# Altium integrated library npm1300_qeaa_config2.IntLib: 11 symbols
Pins are listed as number, name and electrical type; pins without a type are passive.

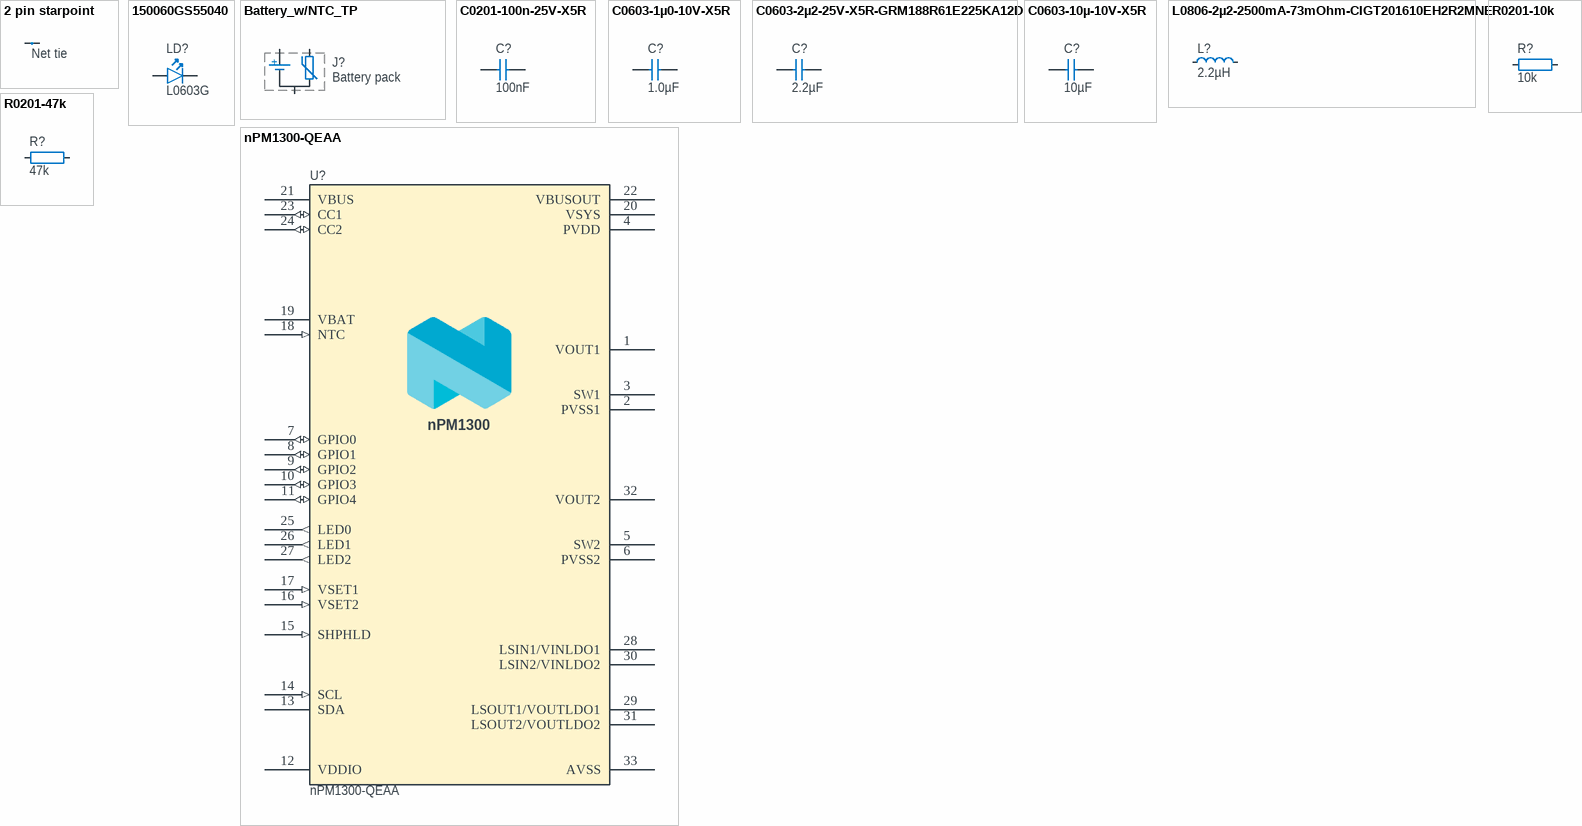
[diagram p0: symbols 2 pin starpoint to R0201-47k]

## 2 pin starpoint
designator NT?, comment Net tie  (net tie, no BOM)
Starpoint; Part Number: 2 pin starpoint; Manufacturer: N.A.; Part number NEMS: 100500603; Pad Count: 2; Component Status: Active; Manufacturer Part Number: N.A.; ComponentLink1URL: N.A.; ComponentLink1Description: Datasheet; ComponentLink2URL: N.A.; ComponentLink2Description: Supplier link; HelpURL: N.A.; Footprint Doc: N.A.; LatestRevisionDate: 2017-08-31; Published: 2017-08-31; Value: Net tie; Note: Net tie; Supplier 1: N.A.; Supplier Part Number 1: N.A.; Supplier 2: N.A.; Supplier Part Number 2: N.A.; Artikkelnr Noca: N.A.; Part number IPS: N.A.; Component Class: Connectors; PartId: 100500603; Author: rsk; Part number Norautron: N.A.
footprint 2 PIN STARPOINT
pins: 1, 2

## 150060GS55040
designator LD?, comment L0603G  (graphical)
LED 0603 GREEN; Part Number: 150060GS55040; Manufacturer: Wurth Elektronik; Part number NEMS: 101400140; Component Status: Active; Pad Count: 2; Note: 60 mcd @ 20 mA; Artikkelnr Noca: N.A.; PartId: 101400140; Component Class: Optoelectronics; Author: kjp; Manufacturer Part Number: 150060GS55040; ComponentLink1URL: https://no.mouser.com/datasheet/2/445/150060GS55040-1714515.pdf; ComponentLink1Description: Datasheet; ComponentLink2URL: https://no.mouser.com/ProductDetail/Wurth-Elektronik/150060GS55040?qs=fAHHVMwC%252Bbhr5Aln2oA6Nw%3D%3D; ComponentLink2Description: Supplier link; HelpURL: N.A.; LatestRevisionDate: 2022-01-27; Published: 2022-01-27; Footprint Doc: 0603; Value: L0603G; Supplier 1: Mouser; Supplier Part Number 1: 710-150060GS55040; Supplier 2: Digi-Key; Supplier Part Number 2: 732-12014-2-ND; Part number IPS: N.A.; Part number Norautron: N.A.
footprint LED_0603_G
pins: 1 C, 2 A

## Battery_w/NTC_TP
designator J?, comment Battery pack  (graphical)
Battery pack with NTC; Part Number: Battery_w/NTC_TP; Manufacturer: N.A.; Part number NEMS: 101800005; Pad Count: 3; Component Status: Active; Footprint Doc: TP_3x1mm_TH; Value: Battery pack; Component Class: Batteries; Author: rsk; PartId: 101800005; Manufacturer Part Number: N.A.; ComponentLink1URL: N.A.; ComponentLink1Description: Datasheet; ComponentLink2URL: N.A.; ComponentLink2Description: Supplier link; HelpURL: N.A.; LatestRevisionDate: 2020-09-21; Published: 2020-09-21; Note: N.A.; Supplier 1: N.A.; Supplier Part Number 1: N.A.; Supplier 2: N.A.; Supplier Part Number 2: N.A.; Artikkelnr Noca: N.A.; Part number IPS: N.A.; Part number Norautron: N.A.
footprint TP_3x1mm_TH
pins: 1 GND, 2 NTC, 3 V+
text: +

## C0201-100n-25V-X5R
designator C?, comment 100nF
Capacitor, Ceramic, X5R, ±10%, 25V; Part Number: C0201-100n-25V-X5R; Manufacturer: Murata; Manufacturer Part Number: GRM033R61E104KE14J; Part number NEMS: 100200459; Pad Count: 2; Artikkelnr Noca: N.A.; Component Status: Active; PartId: 100200459; Component Class: Capacitors; Author: rsk; ComponentLink1URL: https://search.murata.co.jp/Ceramy/image/img/A01X/G101/ENG/GRM033R61E104KE14-01.pdf; ComponentLink1Description: Datasheet; ComponentLink2URL: https://www.murata.com/en-global/products/productdetail?partno=GRM033R61E104KE14%23; ComponentLink2Description: Supplier link; HelpURL: N.A.; Footprint Doc: 0201; LatestRevisionDate: 2020-12-16; Published: 2020-12-16; Value: 100nF; Note: 25V; Supplier 1: Digi-Key; Supplier Part Number 1: 490-14571-1-ND; Supplier 2: Mouser; Supplier Part Number 2: 81-GRM033R61E104KE4J; Part number IPS: N.A.; Part number Norautron: N.A.
footprint CAPC0603X03L_C
pins: 1, 2

## C0603-1µ0-10V-X5R
designator C?, comment 1.0µF
Capacitor, Ceramic, 1.0µF 10V X5R 0603,±10%; Part Number: C0603-1µ0-10V-X5R; Manufacturer: N.A.; Part number NEMS: 100200528; Pad Count: 2; Component Status: Active; Manufacturer Part Number: N.A.; Footprint Doc: 0603; LatestRevisionDate: 2022-10-06; Published: 2022-10-06; Value: 1.0µF; Note: 10V; Artikkelnr Noca: N.A.; Part number IPS: N.A.; ComponentLink1URL: N.A.; ComponentLink1Description: Datasheet; ComponentLink2URL: N.A.; ComponentLink2Description: Supplier link; HelpURL: N.A.; Supplier 1: N.A.; Supplier Part Number 1: N.A.; Supplier 2: N.A.; Supplier Part Number 2: N.A.; Component Class: Capacitors; PartId: 100200528; Author: getr; Part number Norautron: N.A.
footprint CAPC1608X06L
pins: 1, 2

## C0603-2µ2-25V-X5R-GRM188R61E225KA12D
designator C?, comment 2.2µF
Capacitor, Ceramic, X5R, ±10%, 25V; Part Number: C0603-2µ2-25V-X5R-GRM188R61E225KA12D; Manufacturer: Murata; Manufacturer Part Number: GRM188R61E225KA12D; Part number NEMS: 100200454; Component Status: Active; Pad Count: 2; Artikkelnr Noca: N.A.; PartId: 100200454; Component Class: Capacitors; Author: rsk; ComponentLink1URL: https://search.murata.co.jp/Ceramy/image/img/A01X/G101/ENG/GRM188R61E225KA12-01.pdf; ComponentLink1Description: Datasheet; ComponentLink2URL: https://www.murata.com/en-global/products/productdetail?partno=GRM188R61E225KA12%23; ComponentLink2Description: Supplier link; HelpURL: N.A.; LatestRevisionDate: 2021-07-22; Published: 2020-12-16; Footprint Doc: 0603; Value: 2.2µF; Note: 25V; Supplier 1: Digi-Key; Supplier Part Number 1: 490-10731-1-ND; Supplier 2: Mouser; Supplier Part Number 2: 81-GRM188R61E225KA2D; Part number IPS: N.A.; Part number Norautron: N.A.
footprint CAPC1608X06L
pins: 1, 2

## C0603-10µ-10V-X5R
designator C?, comment 10µF
Capacitor, Ceramic, X5R, ±20%, 10V; Part Number: C0603-10µ-10V-X5R; Manufacturer: N.A.; Part number Norautron: 262085341; Part number NEMS: 100200481; Pad Count: 2; Component Status: Active; Manufacturer Part Number: N.A.; ComponentLink1URL: N.A.; ComponentLink1Description: Datasheet; ComponentLink2URL: N.A.; ComponentLink2Description: Supplier link; HelpURL: N.A.; Footprint Doc: 0603; LatestRevisionDate: 2021-07-22; Published: 2021-07-22; Value: 10µF; Note: 10V; Supplier 1: N.A.; Supplier Part Number 1: N.A.; Supplier 2: N.A.; Supplier Part Number 2: N.A.; Artikkelnr Noca: N.A.; Part number IPS: N.A.; Component Class: Capacitors; PartId: 100200481; Author: rubr
footprint CAPC1608X06L
pins: 1, 2

## L0806-2µ2-2500mA-73mOhm-CIGT201610EH2R2MNE
designator L?, comment 2.2µH
Inductor, Irms=2.5A, Isat=2.9A, ±20%, DCR=73mΩ; Part Number: L0806-2µ2-2500mA-73mOhm-CIGT201610EH2R2MNE; Manufacturer: Samsung Electro-Mechanics America; Manufacturer Part Number: CIGT201610EH2R2MNE; Part number Norautron: 26521789; Part number NEMS: 100300400; Pad Count: 2; Note: Unshielded Thin Film Inductor; Artikkelnr Noca: N.A.; Component Status: Active; PartId: 100300400; Component Class: Inductors; Author: rsk; ComponentLink1URL: https://media.digikey.com/pdf/Data%20Sheets/Samsung%20PDFs/CIGT201610EH2R2MNE_Spec.pdf; ComponentLink1Description: Datasheet; ComponentLink2URL: https://www.digikey.com/en/products/detail/samsung-electro-mechanics/CIGT201610EH2R2MNE/7041223?s=N4IgTCBcDaIMIEkDiAVMAGAjANk%2BgogBJgBKYAsgHL4gC6AvkA; ComponentLink2Description: Supplier link; HelpURL: http://product.samsungsem.com/pi/CIGT201610EH2R2MN.do; Footprint Doc: 0806; LatestRevisionDate: 2022-09-07; Published: 2021-02-03; Value: 2.2µH; Supplier 1: Digi-Key; Supplier Part Number 1: 1276-6901-1-ND; Supplier 2: Mouser; Supplier Part Number 2: 187-CIGT201610EH2R2M; Part number IPS: N.A.
footprint INDC2016X10N
pins: 1, 2

## nPM1300-QEAA
designator U?
Li-Ion/Li-Polymer USB-C battery charger with high efficiency buck regulators, LDOs or load switches, LED drivers, TWI and VBUSOUT; Manufacturer: Nordic Semiconductor; Part number NEMS: 102000252; Component Status: Active; Pad Count: 33; Note: N.A.; Part Number: nPM1300-QEAA; PartId: 102000252; Component Class: nRF_Devices; Author: eisk; Manufacturer Part Number: nPM1300-QEAA; ComponentLink1URL: N.A.; ComponentLink1Description: Datasheet; ComponentLink2URL: N.A.; ComponentLink2Description: Supplier link; HelpURL: N.A.; LatestRevisionDate: 2022-11-14; Published: 2022-02-17; Footprint Doc: QFN-32; Value: nPM1300-QEAA; Supplier 1: Nordic Semiconductor; Supplier Part Number 1: nPM1300-QEAA; Supplier 2: N.A.; Supplier Part Number 2: N.A.; Artikkelnr Noca: N.A.; Part number IPS: N.A.; Part number Norautron: N.A.
footprint Nordic_QFN50P500X500X90-33N
pins: 1 VOUT1 (power), 2 PVSS1 (power), 3 SW1 (power), 4 PVDD (power), 5 SW2 (power), 6 PVSS2 (power), 7 GPIO0 (io), 8 GPIO1 (io), 9 GPIO2 (io), 10 GPIO3 (io), 11 GPIO4 (io), 12 VDDIO (power), 13 SDA (oc), 14 SCL (in), 15 SHPHLD (in), 16 VSET2 (in), 17 VSET1 (in), 18 NTC (in), 19 VBAT, 20 VSYS (power), 21 VBUS (power), 22 VBUSOUT (power), 23 CC1 (io), 24 CC2 (io), 25 LED0 (out), 26 LED1 (out), 27 LED2 (out), 28 LSIN1/VINLDO1 (power), 29 LSOUT1/VOUTLDO1 (power), 30 LSIN2/VINLDO2 (power), 31 LSOUT2/VOUTLDO2 (power), 32 VOUT2 (power), 33 AVSS (power)
text: nPM1300

## R0201-10k
designator R?, comment 10k
Resistor, ±1%, 0.05W; Part Number: R0201-10k; Manufacturer: N.A.; Part number IPS: 00000001255; Part number Norautron: 26107101; Part number NEMS: 100100065; Pad Count: 2; Note: Chip Res 1%; Component Status: Active; PartId: 100100065; Component Class: Resistors; Author: rsk; Manufacturer Part Number: N.A.; ComponentLink1URL: N.A.; ComponentLink1Description: Datasheet; ComponentLink2URL: N.A.; ComponentLink2Description: Supplier link; HelpURL: N.A.; Footprint Doc: 0201; LatestRevisionDate: 2014-11-13; Published: 2014-11-13; Value: 10k; Supplier 1: N.A.; Supplier Part Number 1: N.A.; Supplier 2: N.A.; Supplier Part Number 2: N.A.; Artikkelnr Noca: N.A.
footprint RESC0603X03L_C
pins: 1, 2

## R0201-47k
designator R?, comment 47k
Resistor, ±1%, 0.05W; Part Number: R0201-47k; Manufacturer: N.A.; Part number IPS: 00000001423; Part number NEMS: 100100076; Component Status: Active; Pad Count: 2; Note: Chip Res 1%; PartId: 100100076; Component Class: Resistors; Author: rsk; Manufacturer Part Number: N.A.; ComponentLink1URL: N.A.; ComponentLink1Description: Datasheet; ComponentLink2URL: N.A.; ComponentLink2Description: Supplier link; HelpURL: N.A.; LatestRevisionDate: 2014-11-13; Published: 2014-11-13; Footprint Doc: 0201; Value: 47k; Supplier 1: N.A.; Supplier Part Number 1: N.A.; Supplier 2: N.A.; Supplier Part Number 2: N.A.; Artikkelnr Noca: N.A.; Part number Norautron: N.A.
footprint RESC0603X03L_C
pins: 1, 2